# EAGLE library part AWB7228P8 (library RF Amplifier)
IC AMP HSDPA 2.496-2.69GHZ MOD Manufacturer's datasheet <https://s3.amazonaws.com/snapeda/datasheet/AWB7228P8_Skyworks_Solutions.pdf>
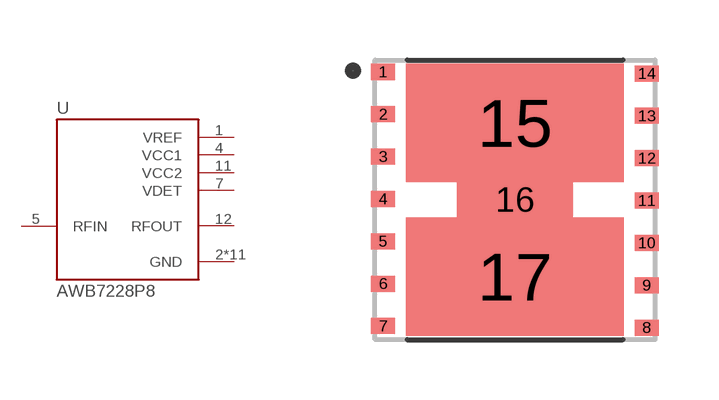
[diagram p4: symbol with the pads of AWB7228P8; footprint AWB7228P8]

Designator prefix U

## AWB7228P8 (CREATED_BY: PCBLayout.com; DIGIKEY_PARTNO: 863-1872-2-ND; MANUFACTURER: Skyworks Solutions Inc.; MPN: AWB7228P8; PACKAGE: SMD-14)  [AWB7228P8]
1  VREF  pwr
2  GND  pwr
3  GND  pwr
4  VCC1  pwr
5  RFIN  in
6  GND  pwr
7  VDET  pwr
8  GND  pwr
9  GND  pwr
10  GND  pwr
11  VCC2  pwr
12  RFOUT  out
13  GND  pwr
14  GND  pwr
15  GND  pwr
16  GND  pwr
17  GND  pwr

## Footprint AWB7228P8 (pad centres in mm)
smd 0.6 x 0.4: 1 -3.3,3.2; 2 -3.3,2.14; 3 -3.3,1.08; 4 -3.3,0.02; 5 -3.3,-1.04; 6 -3.3,-2.1; 7 -3.3,-3.16; 8 3.3,-3.2; 9 3.3,-2.14; 10 3.3,-1.08; 11 3.3,-0.02; 12 3.3,1.04; 13 3.3,2.1; 14 3.3,3.16
smd 5.45 x 2.955: 15 0,1.923; 17 0,-1.923
smd 2.9 x 0.89: 16 0,0